# EAGLE library part 1-1825006-1 (library Switches)
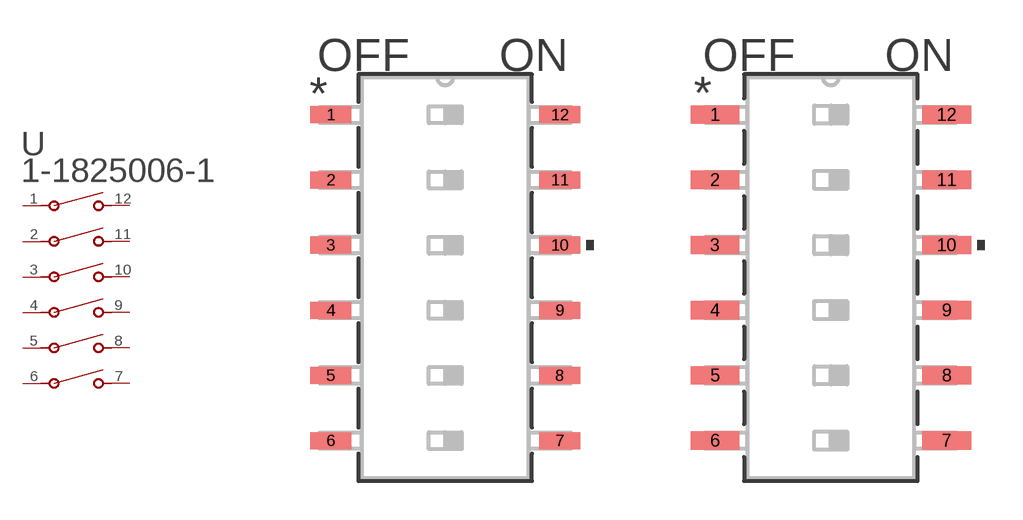
[diagram p31: symbol with the pads of SWSO12_386X100P100; footprints SWSO12_386X100P100, SWSO12_386X100P100-M]

Designator prefix U

## 1-1825006-1 (BUILT_BY: EMA_UL_Team; CATEGORY: DIP & SIP Switches; COPYRIGHT: Copyright (C) 2016 Accelerated Designs. All rights reserved; DESCRIPTION: GDS06S04=DIP SW,SLIDE,SMT; MANUFACTURER_PART_NUMBER: 1-1825006-1; PART_STATUS: active; SERIES: Alcoswitch DIP,Alcoswitch DIP GDS; VENDOR: TE Connectivity)  [SWSO12_386X100P100]
1  1  pas
2  2  pas
3  3  pas
4  4  pas
5  5  pas
6  6  pas
7  7  pas
8  8  pas
9  9  pas
10  10  pas
11  11  pas
12  12  pas

## 1-1825006-1SWSO12_386X100P100-M (BUILT_BY: EMA_UL_Team; CATEGORY: DIP & SIP Switches; COPYRIGHT: Copyright (C) 2016 Accelerated Designs. All rights reserved; DESCRIPTION: GDS06S04=DIP SW,SLIDE,SMT; MANUFACTURER_PART_NUMBER: 1-1825006-1; PART_STATUS: active; SERIES: Alcoswitch DIP,Alcoswitch DIP GDS; VENDOR: TE Connectivity)  [SWSO12_386X100P100-M]
Pads as for SWSO12_386X100P100

## 1-1825006-1SWSO12_386X100P100-L (BUILT_BY: EMA_UL_Team; CATEGORY: DIP & SIP Switches; COPYRIGHT: Copyright (C) 2016 Accelerated Designs. All rights reserved; DESCRIPTION: GDS06S04=DIP SW,SLIDE,SMT; MANUFACTURER_PART_NUMBER: 1-1825006-1; PART_STATUS: active; SERIES: Alcoswitch DIP,Alcoswitch DIP GDS; VENDOR: TE Connectivity)  [SWSO12_386X100P100-L]
Pads as for SWSO12_386X100P100

## Footprint SWSO12_386X100P100 (pad centres in mm)
smd 1.6 x 0.66: 1 -4.458,6.35; 2 -4.458,3.81; 3 -4.458,1.27; 4 -4.458,-1.27; 5 -4.458,-3.81; 6 -4.458,-6.35; 7 4.458,-6.35; 8 4.458,-3.81; 9 4.458,-1.27; 10 4.458,1.27; 11 4.458,3.81; 12 4.458,6.35

## Footprint SWSO12_386X100P100-M (pad centres in mm)
smd 1.905 x 0.711: 1 -4.508,6.35; 2 -4.508,3.81; 3 -4.508,1.27; 4 -4.508,-1.27; 5 -4.508,-3.81; 6 -4.508,-6.35; 7 4.508,-6.35; 8 4.508,-3.81; 9 4.508,-1.27; 10 4.508,1.27; 11 4.508,3.81; 12 4.508,6.35

## Footprint SWSO12_386X100P100-L (pad centres in mm)
smd 1.295 x 0.61: 1 -4.407,6.35; 2 -4.407,3.81; 3 -4.407,1.27; 4 -4.407,-1.27; 5 -4.407,-3.81; 6 -4.407,-6.35; 7 4.407,-6.35; 8 4.407,-3.81; 9 4.407,-1.27; 10 4.407,1.27; 11 4.407,3.81; 12 4.407,6.35